# Altium schematic symbol library LogicIC.Schlib: 4 symbols
Pins are listed as number, name and electrical type; pins without a type are passive.

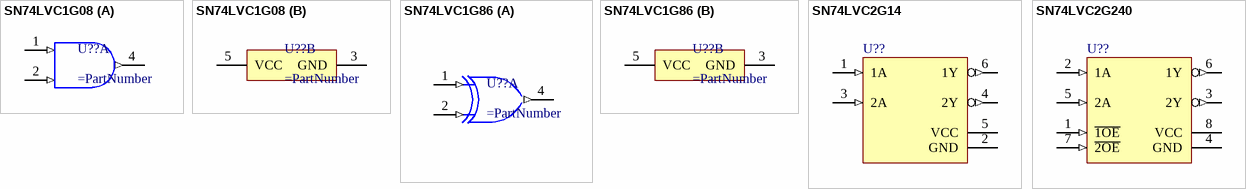
[diagram p0: symbols SN74LVC1G08 to SN74LVC2G240]

## SN74LVC1G08
designator U??
part A pins: 1 1A (in), 2 1B (in), 4 1Y (out)
part B pins: 3 GND (power), 5 VCC (power)

## SN74LVC1G86
designator U??
part A pins: 1 1A (in), 2 1B (in), 4 1Y (out)
part B pins: 3 GND (power), 5 VCC (power)

## SN74LVC2G14
designator U??
pins: 1 1A (in), 2 GND (power), 3 2A (in), 4 2Y (out), 5 VCC (power), 6 1Y (out)

## SN74LVC2G240
designator U??
pins: 1 ~{1OE} (in), 2 1A (in), 3 2Y (out), 4 GND (power), 5 2A (in), 6 1Y (out), 7 ~{2OE} (in), 8 VCC (power)